# EAGLE library part 692221030100 (library Input-Output_Connectors_rev15d)
WR-COM USB 3.0 HORIZONTAL TYPE B=>Code :Con_I-O_COM_USB-3.0_B_692221030100 <http://katalog.we-online.de/media/images/eican/Con_I-O_COM_USB-3.0_B_692221030100_pf2.jpg> Details see: http://katalog.we-online.de/en/em/692_221_030_100 Created 2014-07-09, Karrer Zheng 2014 (C) Würth Elektronik
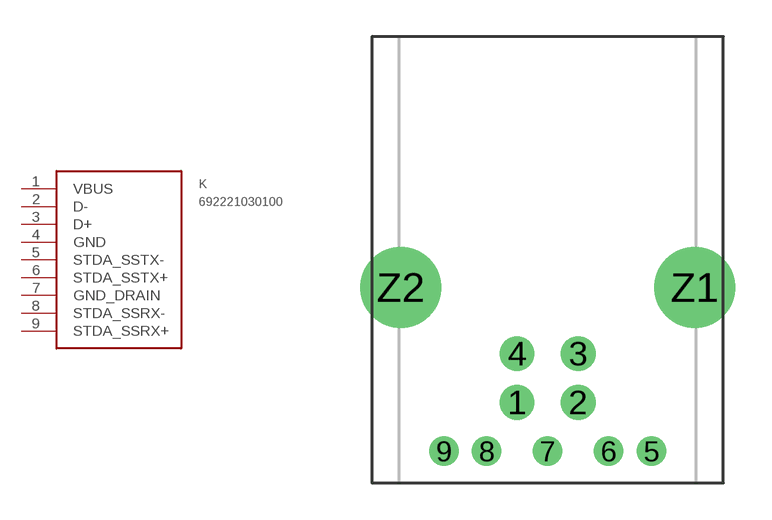
[diagram p87: symbol with the pads of 692221030100; footprint 692221030100]

Designator prefix K

## 692221030100  [692221030100]
1  VBUS
2  D-
3  D+
4  GND
5  STDA_SSTX-
6  STDA_SSTX+
7  GND_DRAIN
8  STDA_SSRX-
9  STDA_SSRX+

## Footprint 692221030100 (pad centres in mm)
WR-COM USB 3.0 HORIZONTAL TYPE B
drill 0.92: 1 -1.25,2; 2 1.25,2; 3 1.25,4; 4 -1.25,4
drill 0.7: 5 4.25,0; 6 2.5,0; 7 0,0; 8 -2.5,0; 9 -4.25,0
drill 2.3: Z1 6.02,6.71; Z2 -6.02,6.71